# Altium footprint library keyswitches.pretty-2.PcbLib: 19 footprints (part 2 of 2)
Each footprint in its own frame and in the unit in brackets; x right, y up, seen from the top. Pads: shape width x height; smd on the part's side, far side on the other; paste and mask are expansions set on the pad; w line width, h text height; cw(c..) or ccw(c..) is an arc to the next point about the centre after c.
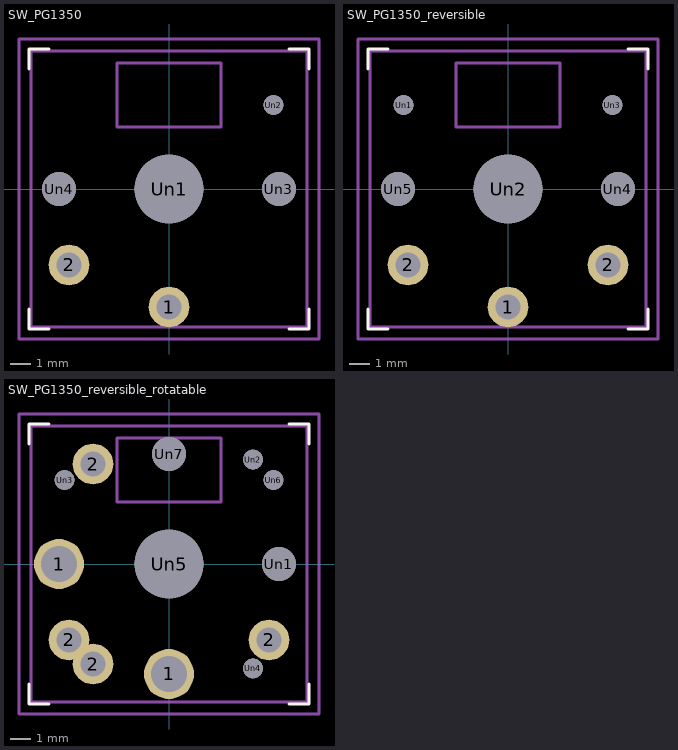
[diagram p1: the footprints below, top view; thin cyan lines are the x and y axes]

## SW_PG1350 [mil]
pads (6):
  round 80 hole 50: 1(0,-232.28) 2(-196.85,-149.61)
  round 135 hole 135: Un1(0,0)
  round 39 hole 39: Un2(205.51,165.35)
  round 67 hole 67: Un3(216.54,0) Un4(-216.54,0)
F.SilkS:
  lines w5.91: -275.59,-236.22 -275.59,-275.59 -236.22,-275.59 ; -275.59,236.22 -275.59,275.59 -236.22,275.59 ; 236.22,-275.59 275.59,-275.59 275.59,-236.22 ; 236.22,275.59 275.59,275.59 275.59,236.22
F.Fab:
  lines w5.91: -295.28,-295.28 295.28,-295.28 295.28,295.28 -295.28,295.28 -295.28,-295.28
  text "'.Designator'" at -56.64,-15.69 h39.37
Eco2.User:
  lines w5.91: -271.65,-271.65 271.65,-271.65 271.65,271.65 -271.65,271.65 -271.65,-271.65 ; -102.36,122.05 102.36,122.05 102.36,248.03 -102.36,248.03 -102.36,122.05

## SW_PG1350_reversible [mil]
pads (8):
  round 80 hole 50: 1(0,-232.28) 2(-196.85,-149.61) 2(196.85,-149.61)
  round 39 hole 39: Un1(-205.51,165.35) Un3(205.51,165.35)
  round 135 hole 135: Un2(0,0)
  round 67 hole 67: Un4(216.54,0) Un5(-216.54,0)
F.SilkS:
  lines w5.91: -275.59,-236.22 -275.59,-275.59 -236.22,-275.59 ; -275.59,236.22 -275.59,275.59 -236.22,275.59 ; 236.22,-275.59 275.59,-275.59 275.59,-236.22 ; 236.22,275.59 275.59,275.59 275.59,236.22
B.SilkS:
  lines w5.91: -275.59,-236.22 -275.59,-275.59 -236.22,-275.59 ; -275.59,236.22 -275.59,275.59 -236.22,275.59 ; 236.22,-275.59 275.59,-275.59 275.59,-236.22 ; 236.22,275.59 275.59,275.59 275.59,236.22
  text "'.Designator'" at 56.64,309.31 h39.37
B.Fab:
  lines w5.91: -295.28,-295.28 295.28,-295.28 295.28,295.28 -295.28,295.28 -295.28,-295.28
  text "'.Comment'" at 50.67,-336.88 h39.37
  text "'.Designator'" at 56.64,-15.69 h39.37
F.Fab:
  lines w5.91: -295.28,-295.28 295.28,-295.28 295.28,295.28 -295.28,295.28 -295.28,-295.28
  text "'.Designator'" at -56.64,-15.69 h39.37
Eco2.User:
  lines w5.91: -271.65,-271.65 271.65,-271.65 271.65,271.65 -271.65,271.65 -271.65,-271.65 ; -102.36,122.05 102.36,122.05 102.36,248.03 -102.36,248.03 -102.36,122.05

## SW_PG1350_reversible_rotatable [mil]
pads (13):
  round 98.43 hole 70: 1(-216.54,0) 1(0,-216.54)
  round 80 hole 50: 2(-196.85,-149.61) 2(-149.61,-196.85) 2(-149.61,196.85) 2(196.85,-149.61)
  round 67 hole 67: Un1(216.54,0) Un7(0,216.54)
  round 39 hole 39: Un2(165.35,205.51) Un3(-205.51,165.35) Un4(165.35,-205.51) Un6(205.51,165.35)
  round 135 hole 135: Un5(0,0)
F.SilkS:
  lines w5.91: -275.59,-236.22 -275.59,-275.59 -236.22,-275.59 ; -275.59,236.22 -275.59,275.59 -236.22,275.59 ; 236.22,-275.59 275.59,-275.59 275.59,-236.22 ; 236.22,275.59 275.59,275.59 275.59,236.22
B.SilkS:
  lines w5.91: -275.59,-236.22 -275.59,-275.59 -236.22,-275.59 ; -275.59,236.22 -275.59,275.59 -236.22,275.59 ; 236.22,-275.59 275.59,-275.59 275.59,-236.22 ; 236.22,275.59 275.59,275.59 275.59,236.22
  text "'.Designator'" at 56.64,309.31 h39.37
B.Fab:
  lines w5.91: -295.28,-295.28 295.28,-295.28 295.28,295.28 -295.28,295.28 -295.28,-295.28
  text "'.Comment'" at 50.67,-336.88 h39.37
  text "'.Designator'" at 56.64,-15.69 h39.37
F.Fab:
  lines w5.91: -295.28,-295.28 295.28,-295.28 295.28,295.28 -295.28,295.28 -295.28,-295.28
  text "'.Designator'" at -56.64,-15.69 h39.37
Eco2.User:
  lines w5.91: -271.65,-271.65 271.65,-271.65 271.65,271.65 -271.65,271.65 -271.65,-271.65 ; -102.36,122.05 102.36,122.05 102.36,248.03 -102.36,248.03 -102.36,122.05